# Altium footprint library 2019-09-25_07-28-36.PcbLib: 3 footprints
Each footprint in its own frame and in the unit in brackets; x right, y up, seen from the top. Pads: shape width x height; smd on the part's side, far side on the other; paste and mask are expansions set on the pad; w line width, h text height; cw(c..) or ccw(c..) is an arc to the next point about the centre after c.
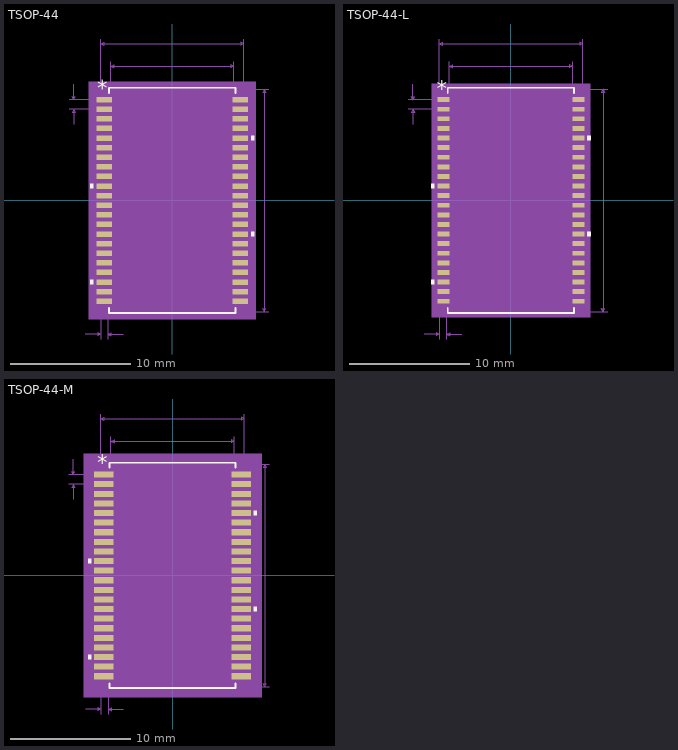
[diagram p0: the footprints below, top view; thin cyan lines are the x and y axes]

## TSOP-44 [mil]
pads (44):
  rect 51.5x18 smd paste+0 mask+0: 1(-223.25,330.75) 2(-223.25,299.25) 3(-223.25,267.75) 4(-223.25,236.25) 5(-223.25,204.75) 6(-223.25,173.25) 7(-223.25,141.75) 8(-223.25,110.25) 9(-223.25,78.75) 10(-223.25,47.25) 11(-223.25,15.75) 12(-223.25,-15.75) 13(-223.25,-47.25) 14(-223.25,-78.75) 15(-223.25,-110.25) 16(-223.25,-141.75) 17(-223.25,-173.25) 18(-223.25,-204.75) 19(-223.25,-236.25) 20(-223.25,-267.75) 21(-223.25,-299.25) 22(-223.25,-330.75) 23(223.25,-330.75) 24(223.25,-299.25) 25(223.25,-267.75) 26(223.25,-236.25) 27(223.25,-204.75) 28(223.25,-173.25) 29(223.25,-141.75) 30(223.25,-110.25) 31(223.25,-78.75) 32(223.25,-47.25) 33(223.25,-15.75) 34(223.25,15.75) 35(223.25,47.25) 36(223.25,78.75) 37(223.25,110.25) 38(223.25,141.75) 39(223.25,173.25) 40(223.25,204.75) 41(223.25,236.25) 42(223.25,267.75) 43(223.25,299.25) 44(223.25,330.75)
Top Overlay:
  region: -259,54.75 -269,54.75 -269,39.75 -259,39.75
  region: -259,-260.25 -269,-260.25 -269,-275.25 -259,-275.25
  region: 259,-102.75 269,-102.75 269,-117.75 259,-117.75
  region: 259,212.25 269,212.25 269,197.25 259,197.25
  lines w6: -207,-352.85 -207,-369.5 207,-369.5 207,-352.85 ; -207,352.85 -207,369.5 207,369.5 207,352.85
  text "*" at -245.75,343.75 h50
Mechanical 5:
  region: 274,-389.5 -274,-389.5 -274,389.5 274,389.5
Mechanical 7:
  lines w1: -338.25,299.25 -223.25,299.25 ; -338.25,330.75 -223.25,330.75 ; -323.25,249.25 -323.25,299.25 ; -323.25,380.75 -323.25,330.75 ; -285,-439.5 -235,-439.5 ; -235,-454.5 -235,0 -235,529.5 ; -211.5,-454.5 -211.5,0 ; -202,0 -202,454.5 ; -161.5,-439.5 -211.5,-439.5 ; 0,-364.5 317,-364.5 ; 0,364.5 317,364.5 ; 202,0 202,454.5 ; 235,0 235,529.5 ; -323.25,299.25 -328.25,289.25 -318.25,289.25 -323.25,299.25 ; -323.25,330.75 -328.25,340.75 -318.25,340.75 -323.25,330.75 ; -235,-439.5 -245,-434.5 -245,-444.5 -235,-439.5 ; -235,514.5 235,514.5 ; -235,514.5 -225,519.5 -225,509.5 -235,514.5 ; -211.5,-439.5 -201.5,-434.5 -201.5,-444.5 -211.5,-439.5 ; -202,439.5 202,439.5 ; -202,439.5 -192,444.5 -192,434.5 -202,439.5 ; 202,439.5 192,444.5 192,434.5 202,439.5 ; 235,514.5 225,519.5 225,509.5 235,514.5 ; 302,-364.5 302,364.5 ; 302,-364.5 297,-354.5 307,-354.5 302,-364.5 ; 302,364.5 297,354.5 307,354.5 302,364.5
  text "Default Padstyle: RX51p5Y18D0T" at -375,-564.5 h50
  text "Pin One Padstyle: RX51p5Y18D0T" at -375,-624.5 h50
  text "Alt 1 Padstyle: OX60Y90D30P" at -337.5,-804.5 h50
  text "Alt 2 Padstyle: OX90Y60D30P" at -337.5,-864.5 h50
  text "0.404in/10.262mm" at -100,459.5 h25
  text "0.47in/11.938mm" at -93.75,534.5 h25
  text "0.729in/18.517mm" at 322,-12.5 h25
  text "0.032in/0.8mm" at -505.75,302.5 h25
  text "0.024in/0.597mm" at -317,-484.5 h25
Mechanical 13:
  drawing of 181 lines, arcs and shapes, not listed
  text "*" at -199.5,311.5 h50
Mechanical 15:
  region: -212,-349.75 -259,-349.75 -259,349.75 -212,349.75 -212,374.5 212,374.5 212,349.75 259,349.75 259,-349.75 212,-349.75 212,-374.5 -212,-374.5
  lines w6: -259,-349.75 -259,349.75 -212,349.75 -212,374.5 212,374.5 212,349.75 259,349.75 259,-349.75 212,-349.75 212,-374.5 -212,-374.5 -212,-349.75 -259,-349.75
3D body: height 10, standoff 0, extent 0,0 10,10

## TSOP-44-L [mil]
pads (44):
  rect 39.5x16 smd paste+0 mask+0: 1(-221.25,330.75) 2(-221.25,299.25) 3(-221.25,267.75) 4(-221.25,236.25) 5(-221.25,204.75) 6(-221.25,173.25) 7(-221.25,141.75) 8(-221.25,110.25) 9(-221.25,78.75) 10(-221.25,47.25) 11(-221.25,15.75) 12(-221.25,-15.75) 13(-221.25,-47.25) 14(-221.25,-78.75) 15(-221.25,-110.25) 16(-221.25,-141.75) 17(-221.25,-173.25) 18(-221.25,-204.75) 19(-221.25,-236.25) 20(-221.25,-267.75) 21(-221.25,-299.25) 22(-221.25,-330.75) 23(221.25,-330.75) 24(221.25,-299.25) 25(221.25,-267.75) 26(221.25,-236.25) 27(221.25,-204.75) 28(221.25,-173.25) 29(221.25,-141.75) 30(221.25,-110.25) 31(221.25,-78.75) 32(221.25,-47.25) 33(221.25,-15.75) 34(221.25,15.75) 35(221.25,47.25) 36(221.25,78.75) 37(221.25,110.25) 38(221.25,141.75) 39(221.25,173.25) 40(221.25,204.75) 41(221.25,236.25) 42(221.25,267.75) 43(221.25,299.25) 44(221.25,330.75)
Top Overlay:
  region: -251,54.75 -261,54.75 -261,39.75 -251,39.75
  region: -251,-260.25 -261,-260.25 -261,-275.25 -251,-275.25
  region: 251,-102.75 261,-102.75 261,-117.75 251,-117.75
  region: 251,212.25 261,212.25 261,197.25 251,197.25
  lines w6: -207,-351.85 -207,-369.5 207,-369.5 207,-351.85 ; -207,351.85 -207,369.5 207,369.5 207,351.85
  text "*" at -243.75,341.75 h50
Mechanical 5:
  region: 260,-383.5 -260,-383.5 -260,383.5 260,383.5
Mechanical 7:
  lines w1: -336.25,299.25 -221.25,299.25 ; -336.25,330.75 -221.25,330.75 ; -321.25,249.25 -321.25,299.25 ; -321.25,380.75 -321.25,330.75 ; -285,-439.5 -235,-439.5 ; -235,-454.5 -235,0 -235,529.5 ; -211.5,-454.5 -211.5,0 ; -202,0 -202,454.5 ; -161.5,-439.5 -211.5,-439.5 ; 0,-364.5 317,-364.5 ; 0,364.5 317,364.5 ; 202,0 202,454.5 ; 235,0 235,529.5 ; -321.25,299.25 -326.25,289.25 -316.25,289.25 -321.25,299.25 ; -321.25,330.75 -326.25,340.75 -316.25,340.75 -321.25,330.75 ; -235,-439.5 -245,-434.5 -245,-444.5 -235,-439.5 ; -235,514.5 235,514.5 ; -235,514.5 -225,519.5 -225,509.5 -235,514.5 ; -211.5,-439.5 -201.5,-434.5 -201.5,-444.5 -211.5,-439.5 ; -202,439.5 202,439.5 ; -202,439.5 -192,444.5 -192,434.5 -202,439.5 ; 202,439.5 192,444.5 192,434.5 202,439.5 ; 235,514.5 225,519.5 225,509.5 235,514.5 ; 302,-364.5 302,364.5 ; 302,-364.5 297,-354.5 307,-354.5 302,-364.5 ; 302,364.5 297,354.5 307,354.5 302,364.5
  text "Default Padstyle: RX39p5Y16D0T" at -375,-564.5 h50
  text "Pin One Padstyle: RX39p5Y16D0T" at -375,-624.5 h50
  text "Alt 1 Padstyle: OX60Y90D30P" at -337.5,-804.5 h50
  text "Alt 2 Padstyle: OX90Y60D30P" at -337.5,-864.5 h50
  text "0.404in/10.262mm" at -100,459.5 h25
  text "0.47in/11.938mm" at -93.75,534.5 h25
  text "0.729in/18.517mm" at 322,-12.5 h25
  text "0.032in/0.8mm" at -503.75,302.5 h25
  text "0.024in/0.597mm" at -317,-484.5 h25
Mechanical 13:
  drawing of 181 lines, arcs and shapes, not listed
  text "*" at -199.5,311.5 h50
Mechanical 15:
  region: -206,-342.75 -245,-342.75 -245,342.75 -206,342.75 -206,368.5 206,368.5 206,342.75 245,342.75 245,-342.75 206,-342.75 206,-368.5 -206,-368.5
  lines w6: -245,-342.75 -245,342.75 -206,342.75 -206,368.5 206,368.5 206,342.75 245,342.75 245,-342.75 206,-342.75 206,-368.5 -206,-368.5 -206,-342.75 -245,-342.75
3D body: height 10, standoff 0, extent 0,0 10,10

## TSOP-44-M [mil]
pads (44):
  rect 63.5x20 smd paste+0 mask+0: 1(-225.25,330.75) 2(-225.25,299.25) 3(-225.25,267.75) 4(-225.25,236.25) 5(-225.25,204.75) 6(-225.25,173.25) 7(-225.25,141.75) 8(-225.25,110.25) 9(-225.25,78.75) 10(-225.25,47.25) 11(-225.25,15.75) 12(-225.25,-15.75) 13(-225.25,-47.25) 14(-225.25,-78.75) 15(-225.25,-110.25) 16(-225.25,-141.75) 17(-225.25,-173.25) 18(-225.25,-204.75) 19(-225.25,-236.25) 20(-225.25,-267.75) 21(-225.25,-299.25) 22(-225.25,-330.75) 23(225.25,-330.75) 24(225.25,-299.25) 25(225.25,-267.75) 26(225.25,-236.25) 27(225.25,-204.75) 28(225.25,-173.25) 29(225.25,-141.75) 30(225.25,-110.25) 31(225.25,-78.75) 32(225.25,-47.25) 33(225.25,-15.75) 34(225.25,15.75) 35(225.25,47.25) 36(225.25,78.75) 37(225.25,110.25) 38(225.25,141.75) 39(225.25,173.25) 40(225.25,204.75) 41(225.25,236.25) 42(225.25,267.75) 43(225.25,299.25) 44(225.25,330.75)
Top Overlay:
  region: -267,54.75 -277,54.75 -277,39.75 -267,39.75
  region: -267,-260.25 -277,-260.25 -277,-275.25 -267,-275.25
  region: 267,-102.75 277,-102.75 277,-117.75 267,-117.75
  region: 267,212.25 277,212.25 277,197.25 267,197.25
  lines w6: -207,-353.85 -207,-369.5 207,-369.5 207,-353.85 ; -207,353.85 -207,369.5 207,369.5 207,353.85
  text "*" at -247.75,345.75 h50
Mechanical 5:
  region: 292,-399.5 -292,-399.5 -292,399.5 292,399.5
Mechanical 7:
  lines w1: -340.25,299.25 -225.25,299.25 ; -340.25,330.75 -225.25,330.75 ; -325.25,249.25 -325.25,299.25 ; -325.25,380.75 -325.25,330.75 ; -285,-439.5 -235,-439.5 ; -235,-454.5 -235,0 -235,529.5 ; -211.5,-454.5 -211.5,0 ; -202,0 -202,454.5 ; -161.5,-439.5 -211.5,-439.5 ; 0,-364.5 317,-364.5 ; 0,364.5 317,364.5 ; 202,0 202,454.5 ; 235,0 235,529.5 ; -325.25,299.25 -330.25,289.25 -320.25,289.25 -325.25,299.25 ; -325.25,330.75 -330.25,340.75 -320.25,340.75 -325.25,330.75 ; -235,-439.5 -245,-434.5 -245,-444.5 -235,-439.5 ; -235,514.5 235,514.5 ; -235,514.5 -225,519.5 -225,509.5 -235,514.5 ; -211.5,-439.5 -201.5,-434.5 -201.5,-444.5 -211.5,-439.5 ; -202,439.5 202,439.5 ; -202,439.5 -192,444.5 -192,434.5 -202,439.5 ; 202,439.5 192,444.5 192,434.5 202,439.5 ; 235,514.5 225,519.5 225,509.5 235,514.5 ; 302,-364.5 302,364.5 ; 302,-364.5 297,-354.5 307,-354.5 302,-364.5 ; 302,364.5 297,354.5 307,354.5 302,364.5
  text "Default Padstyle: RX63p5Y20D0T" at -375,-564.5 h50
  text "Pin One Padstyle: RX63p5Y20D0T" at -375,-624.5 h50
  text "Alt 1 Padstyle: OX60Y90D30P" at -337.5,-804.5 h50
  text "Alt 2 Padstyle: OX90Y60D30P" at -337.5,-864.5 h50
  text "0.404in/10.262mm" at -100,459.5 h25
  text "0.47in/11.938mm" at -93.75,534.5 h25
  text "0.729in/18.517mm" at 322,-12.5 h25
  text "0.032in/0.8mm" at -507.75,302.5 h25
  text "0.024in/0.597mm" at -317,-484.5 h25
Mechanical 13:
  drawing of 181 lines, arcs and shapes, not listed
  text "*" at -199.5,311.5 h50
Mechanical 15:
  region: -222,-360.75 -277,-360.75 -277,360.75 -222,360.75 -222,384.5 222,384.5 222,360.75 277,360.75 277,-360.75 222,-360.75 222,-384.5 -222,-384.5
  lines w6: -277,-360.75 -277,360.75 -222,360.75 -222,384.5 222,384.5 222,360.75 277,360.75 277,-360.75 222,-360.75 222,-384.5 -222,-384.5 -222,-360.75 -277,-360.75
3D body: height 10, standoff 0, extent 0,0 10,10